# EAGLE library part EXB-2HVXXXXX (library pimoroni-passives)
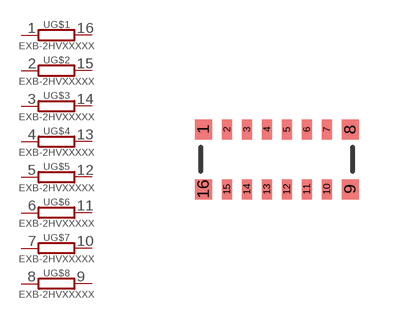
[diagram p0: symbol with the pads of EXB-2HVXXXXX; footprint EXB-2HVXXXXX]

Designator prefix -; gates G$1=RESISTOR G$2=RESISTOR G$3=RESISTOR G$4=RESISTOR G$5=RESISTOR G$6=RESISTOR G$7=RESISTOR G$8=RESISTOR

## EXB-2HVXXXXX  [EXB-2HVXXXXX]
1  G$1:P$1
2  G$2:P$1
3  G$3:P$1
4  G$4:P$1
5  G$5:P$1
6  G$6:P$1
7  G$7:P$1
8  G$8:P$1
9  G$8:P$2
10  G$7:P$2
11  G$6:P$2
12  G$5:P$2
13  G$4:P$2
14  G$3:P$2
15  G$2:P$2
16  G$1:P$2

## Footprint EXB-2HVXXXXX (pad centres in mm)
smd 0.425 x 0.5: 1 -1.837,0.75; 8 1.837,0.75; 9 1.837,-0.75; 16 -1.837,-0.75
smd 0.25 x 0.5: 2 -1.25,0.75; 3 -0.75,0.75; 4 -0.25,0.75; 5 0.25,0.75; 6 0.75,0.75; 7 1.25,0.75; 10 1.25,-0.75; 11 0.75,-0.75; 12 0.25,-0.75; 13 -0.25,-0.75; 14 -0.75,-0.75; 15 -1.25,-0.75